# EAGLE library part FUSE_3PH (library CASARIAE)
FUSE HOLDER grid 15mm, 19649 Wickmann
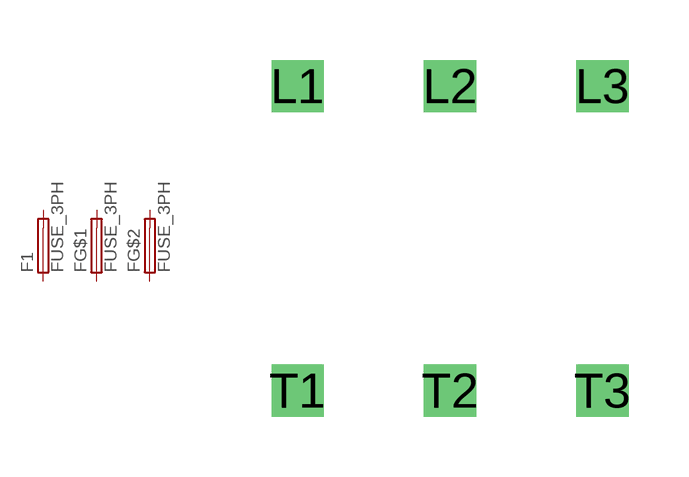
[diagram p4: symbol with the pads of FUSE_3PH; footprint FUSE_3PH]

Designator prefix F; gates 1=FUSE G$1=FUSE G$2=FUSE

## FUSE_3PH  [FUSE_3PH]
L1  1:1  pas
L2  1:2  pas
L3  G$1:1  pas
T1  G$1:2  pas
T2  G$2:1  pas
T3  G$2:2  pas

## Footprint FUSE_3PH (pad centres in mm)
drill 0.8 square: L1 -7.62,6.35; L2 -3.81,6.35; L3 0,6.35; T1 -7.62,-1.27; T2 -3.81,-1.27; T3 0,-1.27